# Altium schematic symbol library memory_flash_platform.SchLib: 2 symbols
Pins are listed as number, name and electrical type; pins without a type are passive.

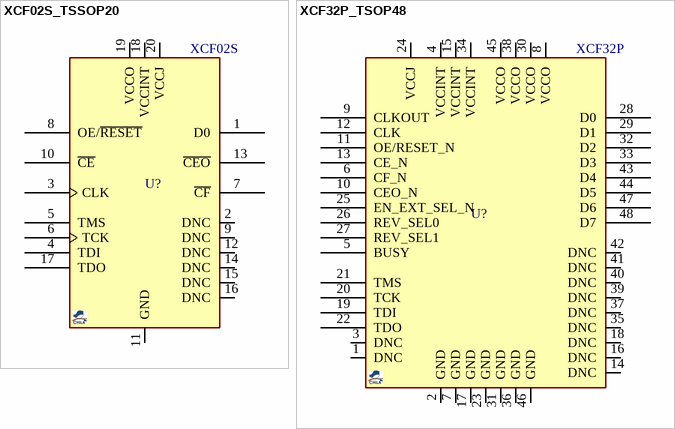
[diagram p0: symbols XCF02S_TSSOP20 to XCF32P_TSOP48]

## XCF02S_TSSOP20
designator U?, comment XCF02S
XCF00S Series, Platform Flash, 2-Mb, In-System Programmable, 3.3V PROM, VO20; MANF: XILINX; MANF_P#: XCF02SVO20C; VALUE: XCF02S
footprint SOG65_20 (PW TSSOP (TI), MO-153-AC (JEDEC), 20Lead, pitch: 0.65mm, 6.5x4.4x1.2mm)
pins: 1 D0 "Serial Data Output, for configuring an FPGA in serial mode.", 2 DNC "Leave Unconnected.", 3 CLK "Configuration Clock Input.", 4 TDI "JTAG Serial Data Input.", 5 TMS "JTAG Mode Select Input.", 6 TCK "JTAG Test Clock Input.", 7 ~{CF} "Configuration Pulse (Open-Drain Output).", 8 OE/~{RESET} "Output Enable/Reset (Open-Drain I/O).", 9 DNC "Leave Unconnected.", 10 ~{CE} "Chip Enable Input.", 11 GND "Ground", 12 DNC "Leave Unconnected.", 13 ~{CEO} "Chip Enable Output, connects to the CE input of the next PROM in the chain.", 14 DNC "Leave Unconnected.", 15 DNC "Leave Unconnected.", 16 DNC "Leave Unconnected.", 17 TDO "JTAG Serial Data Output.", 18 VCCINT "+3.3V Supply for internal logic.", 19 VCCO "+3.3V, 2.5V, or 1.8V I/O Supply.", 20 VCCJ "+3.3V or 2.5V JTAG Signals I/O Supply."

## XCF32P_TSOP48
designator U?, comment XCF32P
XCF00P Series, Platform Flash, 32Mb, In-System Programmable, 1.8V PROM, VO48; MANF: XILINX; MANF_P#: XCF32PVO48C; VALUE: XCF32P
footprint SOG50_48_W
pins: 1 DNC, 2 GND, 3 DNC, 4 VCCINT, 5 BUSY, 6 CF_N, 7 GND, 8 VCCO, 9 CLKOUT, 10 CEO_N, 11 OE/RESET_N, 12 CLK, 13 CE_N, 14 DNC, 15 VCCINT, 16 DNC, 17 GND, 18 DNC, 19 TDI, 20 TCK, 21 TMS, 22 TDO, 23 GND, 24 VCCJ, 25 EN_EXT_SEL_N, 26 REV_SEL0, 27 REV_SEL1, 28 D0, 29 D1, 30 VCCO, 31 GND, 32 D2, 33 D3, 34 VCCINT, 35 DNC, 36 GND, 37 DNC, 38 VCCO, 39 DNC, 40 DNC, 41 DNC, 42 DNC, 43 D4, 44 D5, 45 VCCO, 46 GND, 47 D6, 48 D7